# Altium footprint library AGV ESP32 Breakout.PcbLib: 1 footprints
Each footprint in its own frame and in the unit in brackets; x right, y up, seen from the top. Pads: shape width x height; smd on the part's side, far side on the other; paste and mask are expansions set on the pad; w line width, h text height; cw(c..) or ccw(c..) is an arc to the next point about the centre after c.
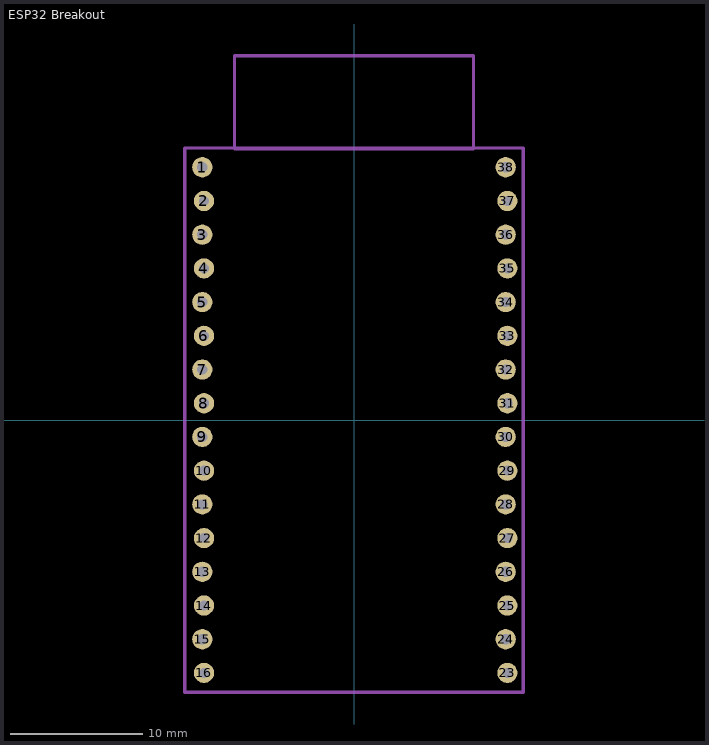
[diagram p0: the footprint, top view; thin cyan lines are the x and y axes]

## ESP32 Breakout [mil]
pads (32):
  round 60 hole 30: 1(-450,750) 2(-445,650) 3(-450,550) 4(-445,450) 5(-450,350) 6(-445,250) 7(-450,150) 8(-445,50) 9(-450,-50) 10(-445,-150) 11(-450,-250) 12(-445,-350) 13(-450,-450) 14(-445,-550) 15(-450,-650) 16(-445,-750) 23(455,-750) 24(450,-650) 25(455,-550) 26(450,-450) 27(455,-350) 28(450,-250) 29(455,-150) 30(450,-50) 31(455,50) 32(450,150) 33(455,250) 34(450,350) 35(455,450) 36(450,550) 37(455,650) 38(450,750)
Mechanical 1:
  lines w10: -501.97,-807.09 501.97,-807.09 501.97,807.09 -501.97,807.09 -501.97,-807.09 ; -354.33,805 354.33,805 354.33,1080.59 -354.33,1080.59 -354.33,805